# EAGLE library part AR0331_BGA (library NicksParts)
ar0331_bga edit this description Auto generated by make-symbol-device-package-bsdl.ulp Rev. 43 Source: ar0331_bga.txt
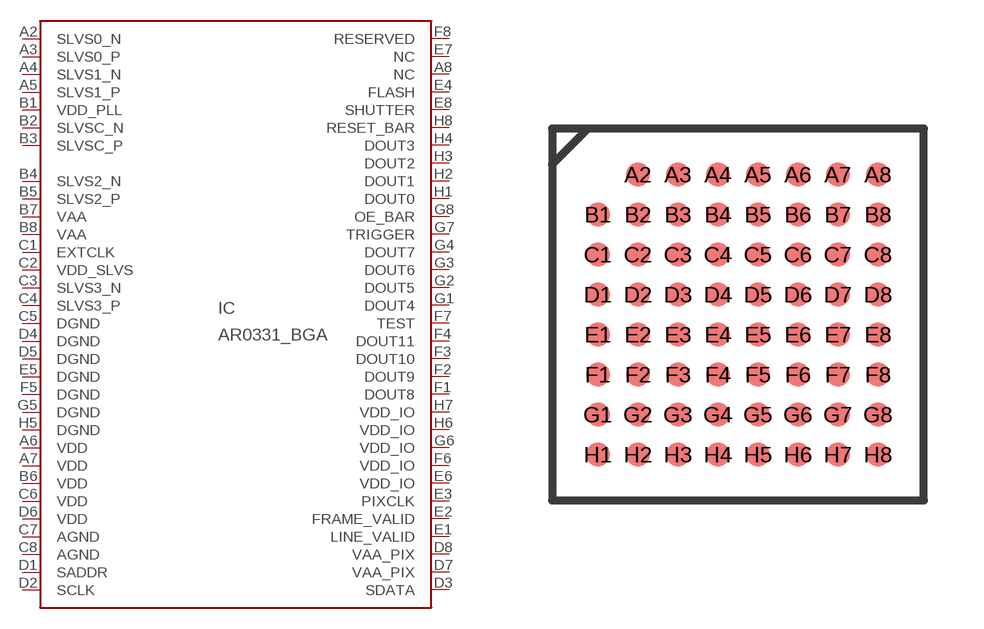
[diagram p8: symbol with the pads of AR0331_BGA; footprint AR0331_BGA]

Designator prefix IC

## AR0331_BGA  [AR0331_BGA]
A2  SLVS0_N  out
A3  SLVS0_P  out
A4  SLVS1_N  out
A5  SLVS1_P  out
A6  VDD  pwr
A7  VDD  pwr
A8  NC  nc
B1  VDD_PLL  pwr
B2  SLVSC_N  out
B3  SLVSC_P  out
B4  SLVS2_N  out
B5  SLVS2_P  out
B6  VDD  pwr
B7  VAA  pwr
B8  VAA  pwr
C1  EXTCLK  in
C2  VDD_SLVS  pwr
C3  SLVS3_N  out
C4  SLVS3_P  out
C5  DGND  pwr
C6  VDD  pwr
C7  AGND  pwr
C8  AGND  pwr
D1  SADDR  in
D2  SCLK  in
D3  SDATA
D4  DGND  pwr
D5  DGND  pwr
D6  VDD  pwr
D7  VAA_PIX  pwr
D8  VAA_PIX  pwr
E1  LINE_VALID  out
E2  FRAME_VALID  out
E3  PIXCLK  out
E4  FLASH  out
E5  DGND  pwr
E6  VDD_IO  pwr
E7  NC  nc
E8  SHUTTER  out
F1  DOUT8  out
F2  DOUT9  out
F3  DOUT10  out
F4  DOUT11  out
F5  DGND  pwr
F6  VDD_IO  pwr
F7  TEST  in
F8  RESERVED  nc
G1  DOUT4  out
G2  DOUT5  out
G3  DOUT6  out
G4  DOUT7  out
G5  DGND  pwr
G6  VDD_IO  pwr
G7  TRIGGER  in
G8  OE_BAR  in
H1  DOUT0  out
H2  DOUT1  out
H3  DOUT2  out
H4  DOUT3  out
H5  DGND  pwr
H6  VDD_IO  pwr
H7  VDD_IO  pwr
H8  RESET_BAR  in

## Footprint AR0331_BGA (pad centres in mm)
ar0331_bga edit this description Auto generated by make-symbol-device-package-bsdl.ulp Rev. 43 Source: ar0331_bga.txt
smd 0.6 x 0.6: A2 -2.5,3.5; A3 -1.5,3.5; A4 -0.5,3.5; A5 0.5,3.5; A6 1.5,3.5; A7 2.5,3.5; A8 3.5,3.5; B1 -3.5,2.5; B2 -2.5,2.5; B3 -1.5,2.5; B4 -0.5,2.5; B5 0.5,2.5; B6 1.5,2.5; B7 2.5,2.5; B8 3.5,2.5; C1 -3.5,1.5; C2 -2.5,1.5; C3 -1.5,1.5; C4 -0.5,1.5; C5 0.5,1.5; C6 1.5,1.5; C7 2.5,1.5; C8 3.5,1.5; D1 -3.5,0.5; D2 -2.5,0.5; D3 -1.5,0.5; D4 -0.5,0.5; D5 0.5,0.5; D6 1.5,0.5; D7 2.5,0.5; D8 3.5,0.5; E1 -3.5,-0.5; E2 -2.5,-0.5; E3 -1.5,-0.5; E4 -0.5,-0.5; E5 0.5,-0.5; E6 1.5,-0.5; E7 2.5,-0.5; E8 3.5,-0.5; F1 -3.5,-1.5; F2 -2.5,-1.5; F3 -1.5,-1.5; F4 -0.5,-1.5; F5 0.5,-1.5; F6 1.5,-1.5; F7 2.5,-1.5; F8 3.5,-1.5; G1 -3.5,-2.5; G2 -2.5,-2.5; G3 -1.5,-2.5; G4 -0.5,-2.5; G5 0.5,-2.5; G6 1.5,-2.5; G7 2.5,-2.5; G8 3.5,-2.5; H1 -3.5,-3.5; H2 -2.5,-3.5; H3 -1.5,-3.5; H4 -0.5,-3.5; H5 0.5,-3.5; H6 1.5,-3.5; H7 2.5,-3.5; H8 3.5,-3.5